# Altium schematic symbol library TST-110-01-G-D.SchLib: 1 symbol
Pins are listed as number, name and electrical type; pins without a type are passive.

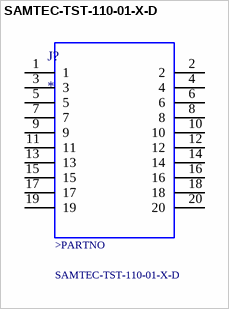
[diagram p0: symbol SAMTEC-TST-110-01-X-D]

## SAMTEC-TST-110-01-X-D
designator J?
MF: {'manufacturer': u'Samtec'}; MP: SAMTEC-TST-110-01-X-D; Price: None; Availability: Unavailable; Value: *; Package: None
footprint SAMTEC-TST-110-01-X-D
pins: 1, 2, 3, 4, 5, 6, 7, 8, 9, 10, 11, 12, 13, 14, 15, 16, 17, 18, 19, 20
text: >PARTNO